# EAGLE library part LT3483A (library PowerProducts)
LT-Spice library generated with : ltspice.ulp from: E:/Programme/LTC/LTspiceIV/lib/sym/PowerProducts/LT3484-0*.asy at 05.10.2012 11:18:43
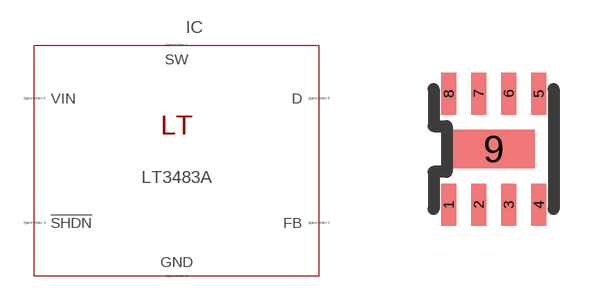
[diagram p48: symbol with the pads of DFN8(DC); footprint DFN8(DC)]

Designator prefix IC

## LT3483A (SPICEMODEL: LT1762.lib; SPICEPREFIX: X; VALUE2: LT1762)  [DFN8(DC)]
1  FB  pas
2  GND  pas
3  GND  pas
4  SW  pas
5  VIN  pas
7  D  pas
8  !SHDN  pas
9  GND  pas

## Footprint DFN8(DC) (pad centres in mm)
Package generated from: DFN8(DC).asc (!PADS-POWERPCB-V5.0-BASIC! DESIGN DATABASE ASCII FILE 1.0) with :import-pads-powerpcb-v5.ulp Version 1.0.1 at 04.10.2012 14:11:17
smd 0.375 x 1.05: 1 -1.125,-1.387; 2 -0.375,-1.387; 3 0.375,-1.387; 4 1.125,-1.387; 5 1.125,1.387; 6 0.375,1.387; 7 -0.375,1.387; 8 -1.125,1.387
smd 2.055 x 0.96: 9 0,0